# Altium schematic symbol library Smart_Gateway_Rev1.0.SchLib: 47 symbols
Pins are listed as number, name and electrical type; pins without a type are passive.

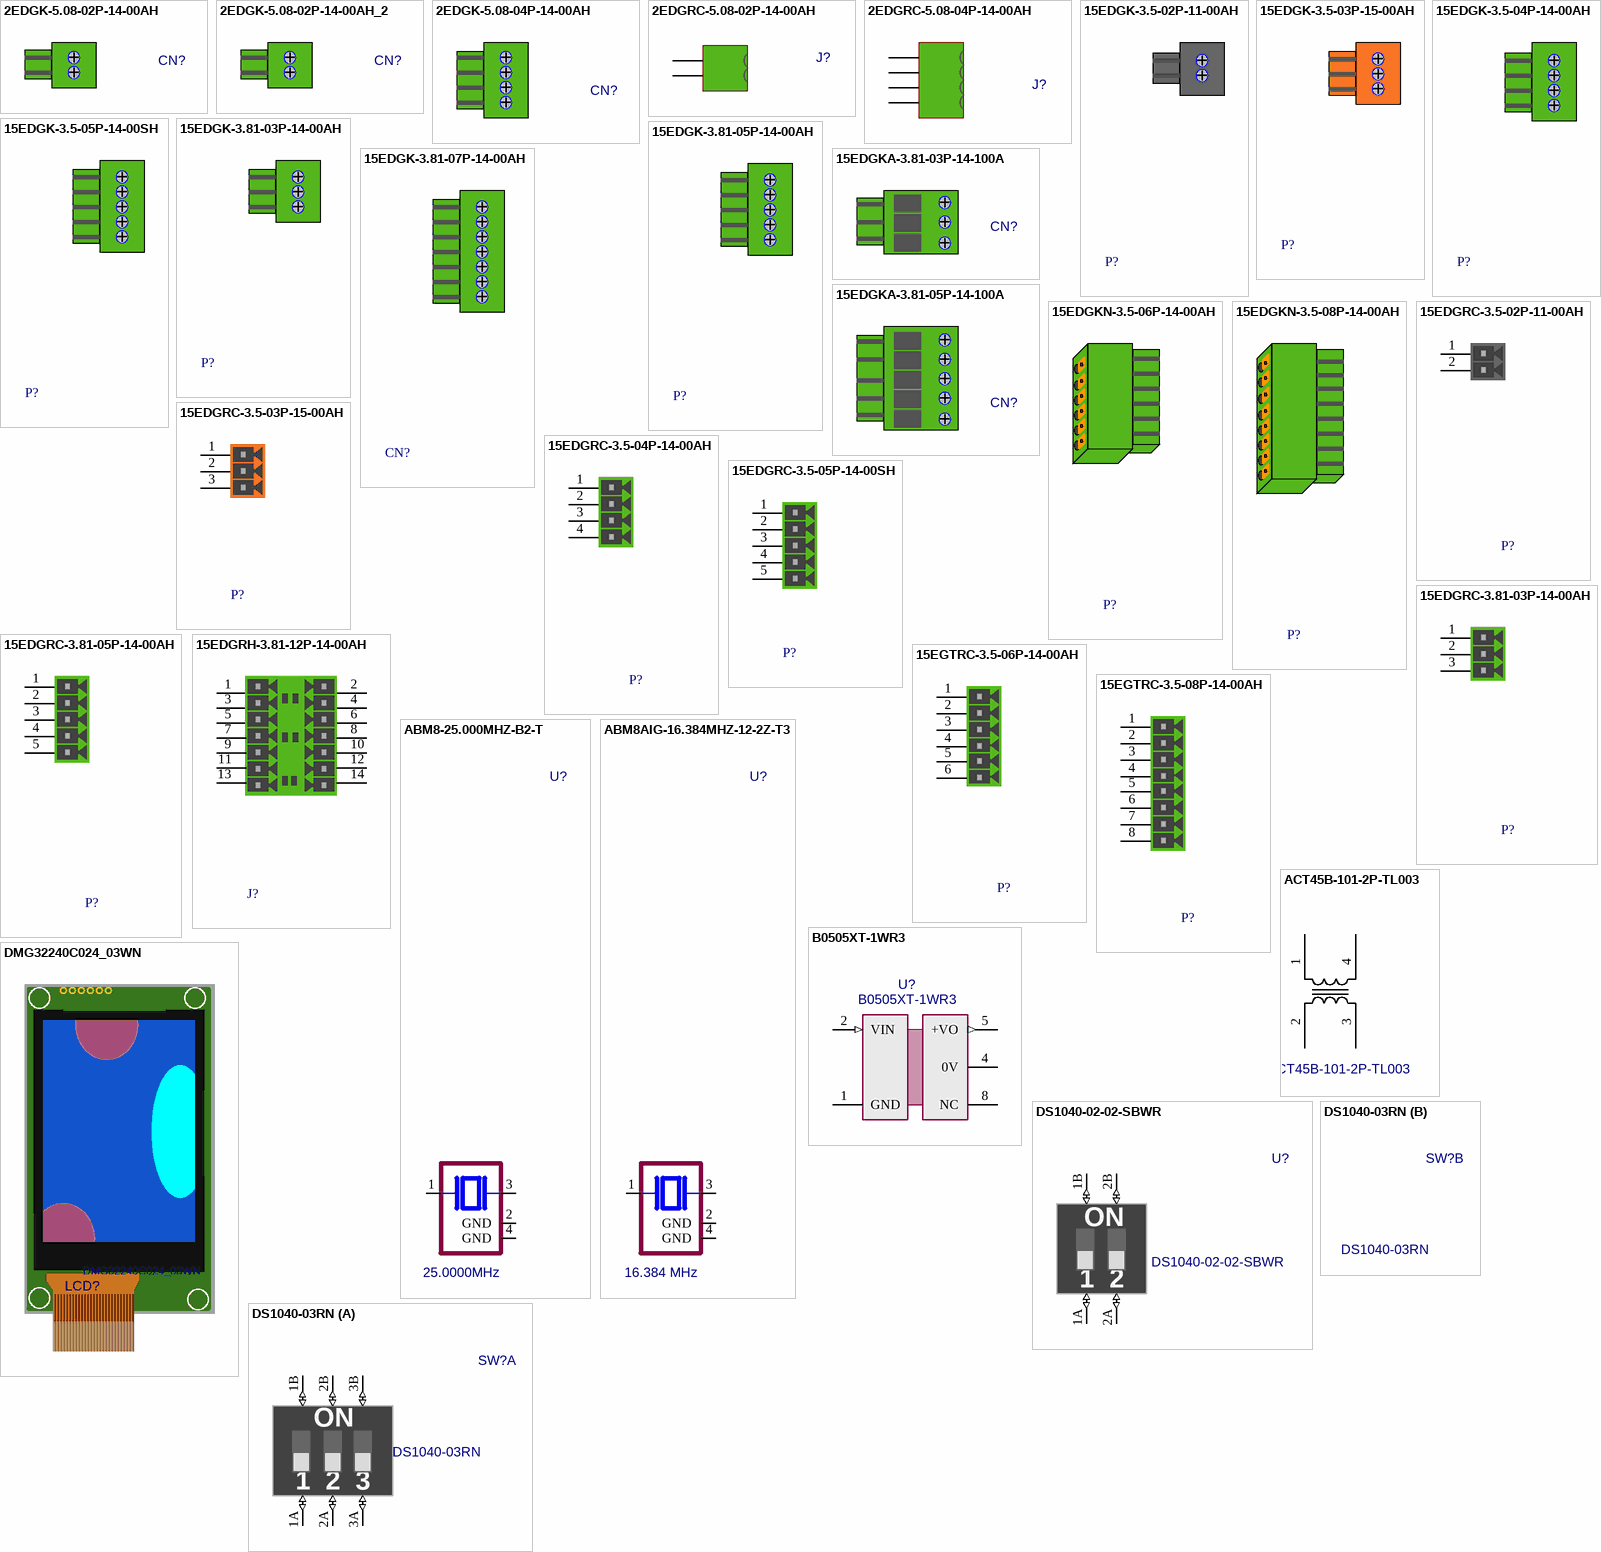
[diagram p0: symbols 2EDGK-5.08-02P-14-00AH to DS1040-03RN]

## 2EDGK-5.08-02P-14-00AH
designator CN?  (value not drawn)  (mechanical)
TERM.BLK.5.08MM 2P FEMALE GREEN; Manufacturer: DEGSON; Manufacturer Part Number: 2EDGK-5.08-02P-14-00AH
footprint 2EDGK-5.08-02P (Footprint not found)

## 2EDGK-5.08-02P-14-00AH_2
designator CN?, comment 2EDGK-5.08-02P-14-00AH  (value not drawn)  (mechanical)
TERM.BLK.5.08MM 2P FEMALE GREEN; Manufacturer: DEGSON; Manufacturer Part Number: 2EDGK-5.08-02P-14-00AH
footprint 2EDGK-5.08-02P (Footprint not found)

## 2EDGK-5.08-04P-14-00AH
designator CN?  (value not drawn)  (mechanical)
TERM.BLK.5.08MM 4P FEMALE GREEN; Manufacturer: DEGSON; Manufacturer Part Number: 2EDGK-5.08-04P-14-00AH
footprint 2EDGK-5.08-04P (TERM.BLK.5.08MM 2P FEMALE GREEN)

## 2EDGRC-5.08-02P-14-00AH
designator J?  (value not drawn)
TERM.BLK.5.08MM 2P 90C MALE GREEN CLOSED; Manufacturer: DEGSON; Manufacturer Part Number: 2EDGRC-5.08-02P-14-00AH
footprint 2EDGRC-5.08-02P (TERM.BLK.5.08MM 2P 90C MALE GREEN CLOSED)
pins: 1, 2

## 2EDGRC-5.08-04P-14-00AH
designator J?  (value not drawn)
TERM.BLK.5.08MM 4P 90C MALE GREEN CLOSED; Manufacturer: DEGSON; Manufacturer Part Number: 2EDGRC-5.08-04P-14-00AH
footprint 2EDGRC-5.08-04P (Footprint not found)
pins: 1, 2, 3, 4

## 15EDGK-3.5-02P-11-00AH
designator P?  (value not drawn)  (mechanical)
TERM.BLK.3.50MM 2P FEMALE GRAY; Manufacturer: DEGSON; Value: 3.5mm 02P; Manufacturer Part Number: 15EDGK-3.5-02P-11-00AH
footprint 15EDGK-3.5-02P-11-00AH (Footprint not found)

## 15EDGK-3.5-03P-15-00AH
designator P?  (value not drawn)  (mechanical)
TERM.BLK.3.50MM 3P FEMALE ORANGE; Manufacturer: DEGSON; Value: 3.5mm 03P; Manufacturer Part Number: 15EDGK-3.5-03P-15-00AH
footprint 15EDGK-3.5-03P (Footprint not found)

## 15EDGK-3.5-04P-14-00AH
designator P?  (value not drawn)  (mechanical)
TERM.BLK.3.50MM 5P FEMALE GREEN; Manufacturer: DEGSON; Value: 3.5mm 03P; Manufacturer Part Number: 15EDGK-3.5-04P-14-00AH
footprint 15EDGK-3.5-04P (Footprint not found)

## 15EDGK-3.5-05P-14-00SH
designator P?  (value not drawn)  (mechanical)
TERM.BLK.3.50MM 5P FEMALE GREEN; Manufacturer: DEGSON; Value: 3.5mm 03P; Manufacturer Part Number: 15EDGK-3.5-05P-14-00SH
footprint 15EDGK-3.5-05P (Footprint not found)

## 15EDGK-3.81-03P-14-00AH
designator P?  (value not drawn)  (mechanical)
TERM.BLK.3.81MM 3P FEMALE GREEN; Manufacturer: DEGSON; Value: 3.81mm 03P; Manufacturer Part Number: 15EDGK-3.81-03P-14-00AH
footprint 15EDGK-3.81-03P (TERM.BLK.3.81MM 3P FEMALE GREEN)

## 15EDGK-3.81-05P-14-00AH
designator P?  (value not drawn)  (mechanical)
TERM.BLK.3.81MM 5P FEMALE GREEN; Manufacturer: DEGSON; Value: 3.81m 05P; Manufacturer Part Number: 15EDGK-3.81-05P-14-00AH
footprint 15EDGK-3.5-05P (Footprint not found)

## 15EDGK-3.81-07P-14-00AH
designator CN?  (value not drawn)  (mechanical)
TERM.BLK.3.81MM 7P FEMALE GREEN; Manufacturer: DEGSON; Value: 3.81m 07P; Manufacturer Part Number: 15EDGK-3.81-07P-14-00AH
footprint 15EDGK-3.81-07P (TERM.BLK.3.81MM 7P FEMALE GREEN)

## 15EDGKA-3.81-03P-14-100A
designator CN?  (value not drawn)  (mechanical)
TERM.BLK.3.81MM 3P 180C FEMALE GREEN; Manufacturer: DEGSON; Manufacturer Part Number: 15EDGKA-3.81-03P-14-100A
footprint 15EDGKA-3.81-03P

## 15EDGKA-3.81-05P-14-100A
designator CN?  (value not drawn)  (mechanical)
TERM.BLK.3.81MM 5P 180C FEMALE GREEN; Manufacturer: DEGSON; Manufacturer Part Number: 15EDGKA-3.81-05P-14-100A
footprint 15EDGKA-3.81-05P (Footprint not found)

## 15EDGKN-3.5-06P-14-00AH
designator P?  (value not drawn)  (mechanical)
TERM.BLK.3.50MM 6P FEMALE GREEN CLOSED; Manufacturer: DEGSON; Value: 3.5mm 06P; Manufacturer Part Number: 15EDGKN-3.5-06P-14-00AH
footprint 15EDGKN-3.5-06P-14-00AH

## 15EDGKN-3.5-08P-14-00AH
designator P?  (value not drawn)  (mechanical)
TERM.BLK.3.50MM 8P FEMALE GREEN CLOSED; Manufacturer: DEGSON; Value: 3.5mm 06P; Manufacturer Part Number: 15EDGKN-3.5-08P-14-00AH
footprint 15EDGKN-3.5-08P-14-00AH

## 15EDGRC-3.5-02P-11-00AH
designator P?  (value not drawn)
TERM.BLK.3.50MM 2P 90C MALE GRAY CLOSED; Manufacturer: DEGSON; Value: 3.5mm 02P; Manufacturer Part Number: 15EDGRC-3.5-02P-11-00AH
footprint 15EDGRC-3.5-02P-11-00AH
pins: 1, 2

## 15EDGRC-3.5-03P-15-00AH
designator P?  (value not drawn)
TERM.BLK.3.50MM 3P 90C MALE ORANGE CLOSED; Manufacturer: DEGSON; Value: 3.5mm 03P; Manufacturer Part Number: 15EDGRC-3.5-03P-15-00AH
footprint 15EDGRC-3.5-03P (Footprint not found)
pins: 1, 2, 3

## 15EDGRC-3.5-04P-14-00AH
designator P?  (value not drawn)
TERM.BLK.3.50MM 4P 90C MALE GREEN CLOSED; Manufacturer: DEGSON; Value: 3.5mm 04P; Manufacturer Part Number: 15EDGRC-3.5-04P-14-00AH
footprint 15EDGRC-3.5-04P (Footprint not found)
pins: 1, 2, 3, 4

## 15EDGRC-3.5-05P-14-00SH
designator P?  (value not drawn)
TERM.BLK.3.50MM 5P 90C MALE GREEN CLOSED; Manufacturer: DEGSON; Value: 3.5mm 05P; Manufacturer Part Number: 15EDGRC-3.5-05P-14-00SH
footprint 15EDGRC-3.5-05P (Footprint not found)
pins: 1, 2, 3, 4, 5

## 15EDGRC-3.81-03P-14-00AH
designator P?  (value not drawn)
TERM.BLK.3.81MM 3P 90C MALE GREEN CLOSED; Manufacturer: DEGSON; Value: 3.81mm 03P; Manufacturer Part Number: 15EDGRC-3.81-03P-14-00AH
footprint 15EDGRC-3.81-03P (Footprint not found)
pins: 1, 2, 3

## 15EDGRC-3.81-05P-14-00AH
designator P?  (value not drawn)
TERM.BLK.3.81MM 5P 90C MALE GREEN CLOSED; Manufacturer: DEGSON; Value: 3.81mm 05P; Manufacturer Part Number: 15EDGRC-3.81-05P-14-00AH
footprint 15EDGRC-3.81-05P (Footprint not found)
pins: 1, 2, 3, 4, 5

## 15EDGRH-3.81-12P-14-00AH
designator J?  (value not drawn)
TERM.BLK.3.81mm 14P 90C MALE GREEN CLOSED; Manufacturer: DEGSON; Value: 3.81mm 14P; Manufacturer Part Number: 15EDGRH-3.81-12P-14-00AH
footprint 15EDGRH-3.81-14P
pins: 1, 2, 3, 4, 5, 6, 7, 8, 9, 10, 11, 12, 13, 14

## 15EGTRC-3.5-06P-14-00AH
designator P?  (value not drawn)
TERM.BLK.3.50MM 6P 90C MALE GREEN CLOSED; Manufacturer: GOLTEN; Value: 3.5mm 06P; Manufacturer Part Number: 15EGTRC-3.5-06P-14-00AH
footprint 15EGTRC-3.5-06P-14-00AH
pins: 1, 2, 3, 4, 5, 6

## 15EGTRC-3.5-08P-14-00AH
designator P?  (value not drawn)
TERM.BLK.3.50MM 8P 90C MALE GREEN CLOSED; Manufacturer: GOLTEN; Value: 3.5mm 08P; Manufacturer Part Number: 15EGTRC-3.5-08P-14-00AH
footprint 15EGTRC-3.5-08P-14-00AH (Footprint not found)
pins: 1, 2, 3, 4, 5, 6, 7, 8

## ABM8-25.000MHZ-B2-T
designator U?  value 25.0000MHz  (hidden comment: ABM8-25.000MHZ-B2-T)
CRYSTAL 25.0000MHz 18pF 20PPM 4-SMD; Manufacturer: ABRACON; Package: 4-SMD; Manufacturer Part Number: ABM8-25.000MHZ-B2-T
footprint XTAL_ABM8-25.000MHZ-B2-T
pins: 1, 2 GND (power), 3 2, 4 GND (power)

## ABM8AIG-16.384MHZ-12-2Z-T3
designator U?  value 16.384 MHz  (hidden comment: ABM8AIG-16.384MHZ-12-2Z-T3)
CRYSTAL 16.3840MHZ 12PF SMD; Manufacturer: ABRACON; Package: 4-SMD; Manufacturer Part Number: ABM8AIG-16.384MHZ-12-2Z-T3
footprint XTAL_ABM8-25.000MHZ-B2-T
pins: 1, 2 GND (power), 3 2, 4 GND (power)

## ACT45B-101-2P-TL003
designator U?
CMC 100UH 150MA 2LN 5.8KOHM SMD; Manufacturer: TDK Corporation; Package: SMD; Manufacturer Part Number: ACT45B-101-2P-TL003; Value: ACT45B-101-2P-TL003
footprint ACT45B-101-2P-TL003_TDK
pins: 1, 2, 3, 4

## B0505XT-1WR3
designator U?
DC DC CONVERTER 5V 1W; Manufacturer: MORNSUN; Package: 8-SMD; Manufacturer Part Number: B0505XT-1WR3; Value: B0505XT-1WR3
footprint CONV_B0505XT-1WR3
pins: 1 GND (power), 2 VIN (in), 4 0V, 5 +VO (out), 8 NC

## DMG32240C024_03WN
designator LCD?
SMART DISPLAY MOD 2.4" 320x240 TN; Manufacturer: BEIJING DWIN; Package: FLEX CABLE
footprint BEIJING DWIN (Footprint not found)

## DS1040-02-02-SBWR
designator U?
SWITCH DIP 2 Pos. SPST 25mA 24VDC SMT V/T; Manufacturer: CONNFLY; Package: SMT V/T; Manufacturer Part Number: DS1040-02-02-SBWR; Value: DS1040-02-02-SBWR
footprint DS1040-02-02-SBWR (Footprint not found)
pins: 1A (io), 1B (io), 2A (io), 2B (io)
text: ON; 1; 2

## DS1040-03RN
designator SW?
SWITCH DIP 3 Pos. SPST 100mA 24VDC THT V/T; Manufacturer: CONNFLY; Package: SMT V/T; Manufacturer Part Number: DS1040-03RN; Value: DS1040-03RN
footprint DS1040-03RN
part A pins: 1A (io), 1B (io), 2A (io), 2B (io), 3A (io), 3B (io)
part A text: ON; 1; 2; 3

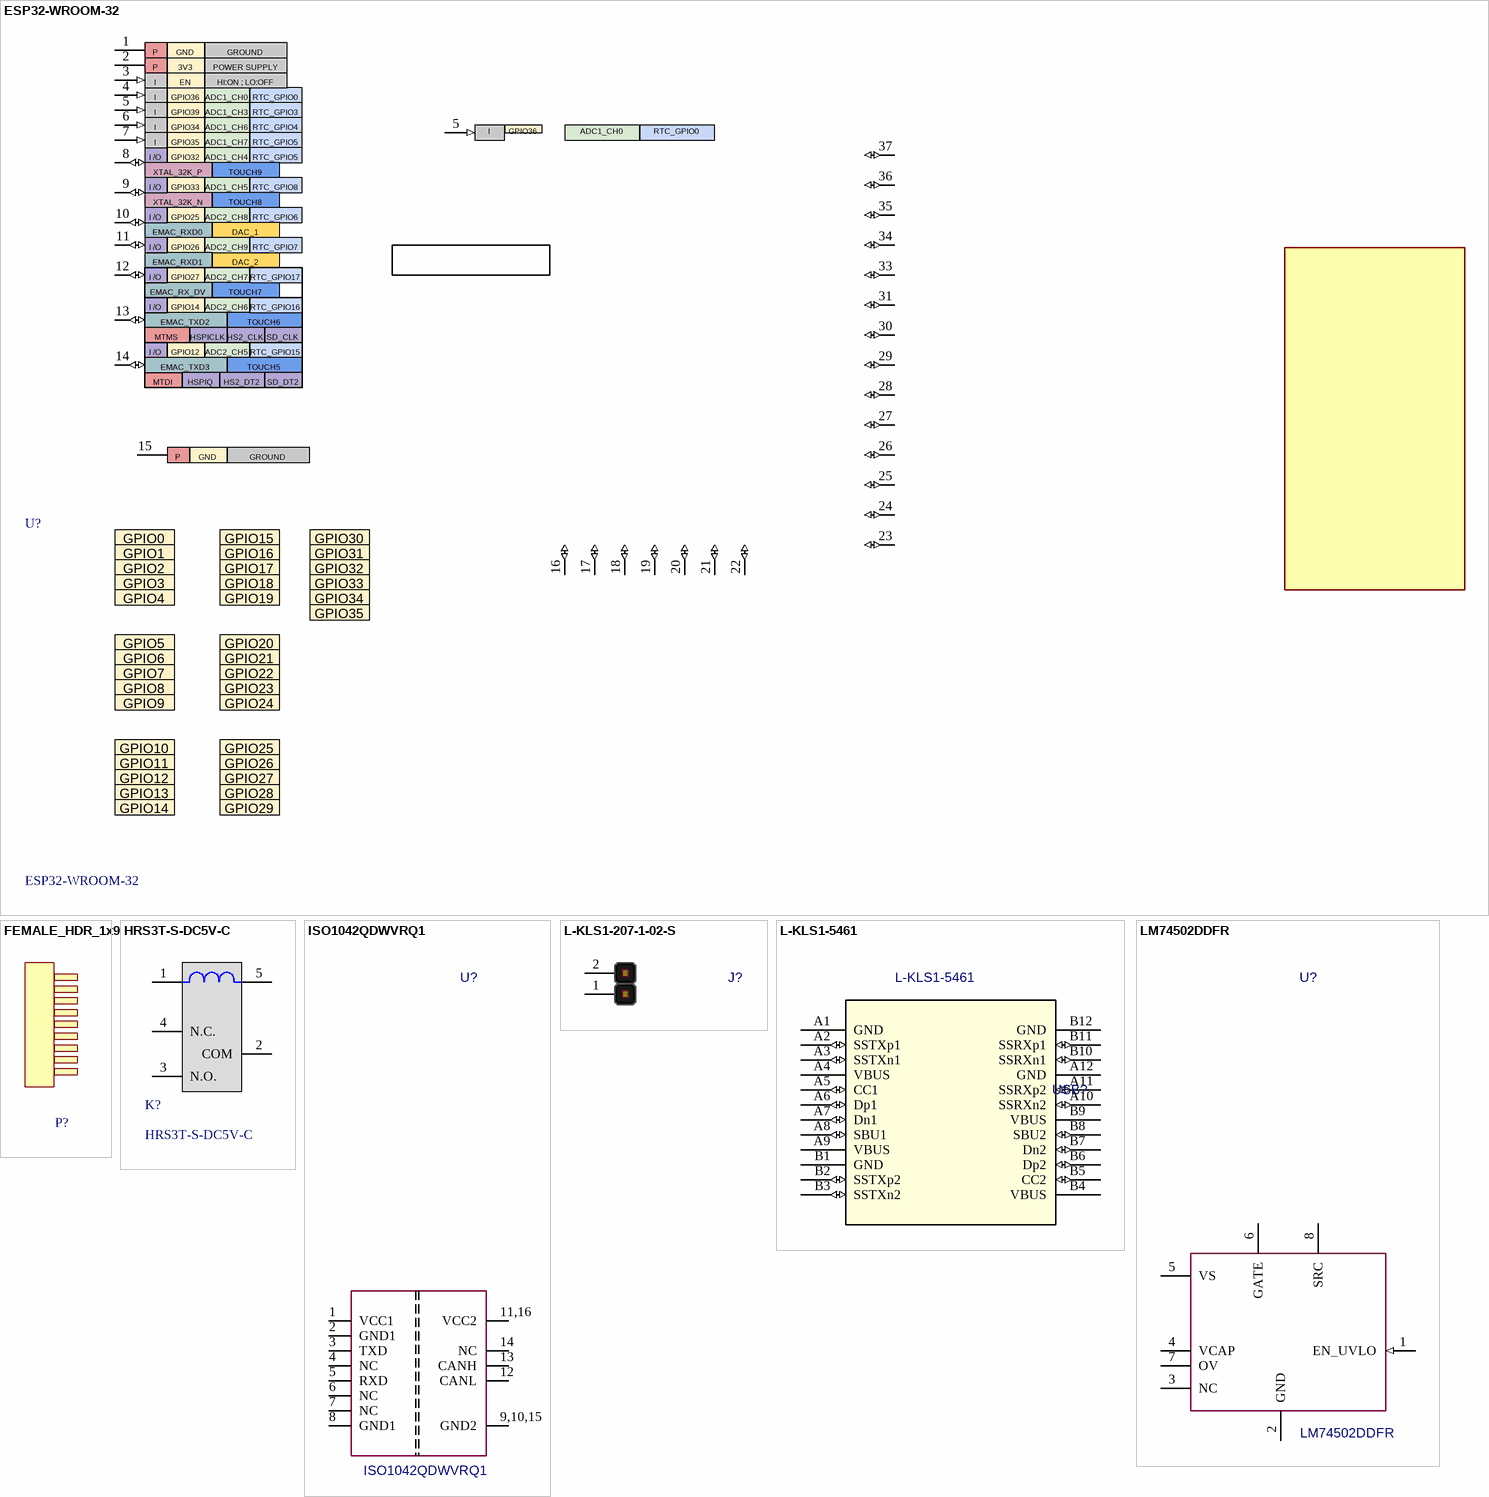
[diagram p1: symbols ESP32-WROOM-32 to LM74502DDFR]

## ESP32-WROOM-32
designator U?
WiFi Modules (802.11) SMD module ESP32-WROOM-32E, ESP32-D0WD-V3, ESP32 ECO V3, 8 MB SPI flash, IPEX antenna connector; Part Number: M000011; Manufacturer Part Number: ESP32-WROOM-32E (8MB); Manufacturer: Espressif; Supplier 1: Digi-Key; Supplier Part Number 1: ESP32-WROOM-32E; Operating Temperature: -40°C ~ 85°C; Price: 3,3
footprint XCVR_ESP32-WROOM-32U
footprint ESP32-WROOM-32E
pins: 1 GND (power), 2 3V3 (power), 3 EN (in), 4 SENSOR_VP (in), 5 SENSOR_VN (in), 5 SENSOR_VP (in), 6 I034 (in), 7 I035 (in), 8 I032 (io), 9 I033 (io), 10 I025 (io), 11 I026 (io), 12 IO27 (io), 13 IO14 (io), 14 IO12 (io), 15 GND (power), 16 IO13 (io), 17 SHD/SD2 (io), 18 SWP/SD3 (io), 19 SCS/CMD (io), 20 SCL/CLK (io), 21 SDO/SD0 (io), 22 SD1/SD1 (io), 23 IO15 (io), 24 IO2 (io), 25 IO0 (io), 26 IO4 (io), 27 IO16 (io), 28 IO17 (io), 29 IO5 (io), 30 IO18 (io), 31 IO19 (io), 33 IO21 (io), 34 RXD0 (io), 35 TXD0 (io), 36 IO22 (io), 37 IO23 (io)
text: P; GROUND; POWER SUPPLY; I; HI:ON ; LO:OFF; GPIO36; ADC1_CH0; RTC_GPIO0; GPIO39; ADC1_CH3; RTC_GPIO3; GPIO34; ADC1_CH6; RTC_GPIO4; GPIO35; ADC1_CH7; RTC_GPIO5; I /O; GPIO32; ADC1_CH4; XTAL_32K_P; TOUCH9; GPIO33; ADC1_CH5; RTC_GPIO8; XTAL_32K_N; TOUCH8; GPIO25; ADC2_CH8; RTC_GPIO6; EMAC_RXD0; DAC_1; GPIO26; ADC2_CH9; RTC_GPIO7; EMAC_RXD1; DAC_2; GPIO27; ADC2_CH7; RTC_GPIO17; EMAC_RX_DV; TOUCH7; GPIO14; ADC2_CH6; RTC_GPIO16; EMAC_TXD2; TOUCH6; MTMS; HSPICLK; HS2_CLK; SD_CLK; GPIO12; ADC2_CH5; RTC_GPIO15; EMAC_TXD3; TOUCH5; MTDI; HSPIQ; HS2_DT2; SD_DT2; GPIO0 /; GPIO15; GPIO30; GPIO1 /; GPIO16; GPIO31; GPIO2 /; GPIO17; GPIO3; GPIO18; GPIO4; GPIO19; GPIO5; GPIO20; GPIO6; GPIO21; GPIO7; GPIO22; GPIO8; GPIO23; GPIO9; GPIO24; GPIO10; GPIO11; GPIO13; GPIO28; GPIO29

## FEMALE_HDR_1x9
designator P?  (value not drawn)  (mechanical)
TERM.BLK.3.81MM 09P 90C FEMALE GREEN CLOSED DEGSON; Manufacturer Part Number: 15EDGK-3.81-09P; Connector Type: Klemens; Pitch: 3.5mm; Number of Positions: 2; Current Rating: 8A; Voltage - Rated: 300V; Value: 3.81mm 09P; Manufacturer: DEGSON; Series: 15EDGK; Supplier 1: Ozdisan; Contact Type: Female; Mounting Type: THT; Supplier Part Number 1: 15EDGK-3.81-09P; Operating Temperature: -40°C~+105°C; Number of Rows: 1; Price: 0,06791
footprint 15EDGK-3.5-09P-14-00AH

## HRS3T-S-DC5V-C
designator K?
RELAY POWER 10A 5VDC 1FormC HKE; Manufacturer: HKE; Manufacturer Part Number: HRS3T-S-DC5V-C
footprint JQ15VF
pins: 1 COIL_1, 2 COM, 3 N.O., 4 N.C., 5 COIL_2

## ISO1042QDWVRQ1
designator U?
1/1 Transceiver, Isolated Full CANbus 8-SOIC; Manufacturer: Texas Instruments; Package: 8SOIC; Manufacturer Part Number: ISO1042QDWVRQ1; Value: ISO1042QDWVRQ1
footprint 8-SOIC
pins: 1 VCC1 (power), 2 GND1 (power), 3 TXD, 4 NC, 5 RXD, 6 NC (power), 7 NC (power), 8 GND1 (power), 9,10,15 GND2 (power), 11,16 VCC2 (power), 12 CANL, 13 CANH, 14 NC

## L-KLS1-207-1-02-S
designator J?  (value not drawn)
PIN HEADER 2PIN(1x2) 2.54mm THT V/T; Manufacturer: KLS ELECTRONIC; Manufacturer Part Number: L-KLS1-207-1-02-S
footprint PIN HEADER 2PIN(1x2) 2.54mm THT V/T
pins: 1, 2

## L-KLS1-5461
designator USB?
CONNECTOR USB 14P USB FEMALE SOCKET C TYPE; Manufacturer: KLS ELECTRONIC; Package: SMT R/T; Manufacturer Part Number: L-KLS1-5461; Value: L-KLS1-5461
footprint 217C-AA01_ATT
pins: A1 GND (power), A2 SSTXp1 (io), A3 SSTXn1 (io), A4 VBUS (power), A5 CC1 (io), A6 Dp1 (io), A7 Dn1 (io), A8 SBU1 (io), A9 VBUS (power), A10 SSRXn2 (io), A11 SSRXp2 (io), A12 GND (power), B1 GND (power), B2 SSTXp2 (io), B3 SSTXn2 (io), B4 VBUS (power), B5 CC2 (io), B6 Dp2 (io), B7 Dn2 (io), B8 SBU2 (io), B9 VBUS (power), B10 SSRXn1 (io), B11 SSRXp1 (io), B12 GND (power)

## LM74502DDFR
designator U?
3.2-V TO 65-V INDUSTRIAL RPP CON; Manufacturer: Texas Instruments; Package: TSOT-23-8; Manufacturer Part Number: LM74502DDFR; Value: LM74502DDFR
footprint DDF0008A-MFG
pins: 1 EN_UVLO (in), 2 GND (power), 3 NC, 4 VCAP, 5 VS (power), 6 GATE, 7 OV, 8 SRC

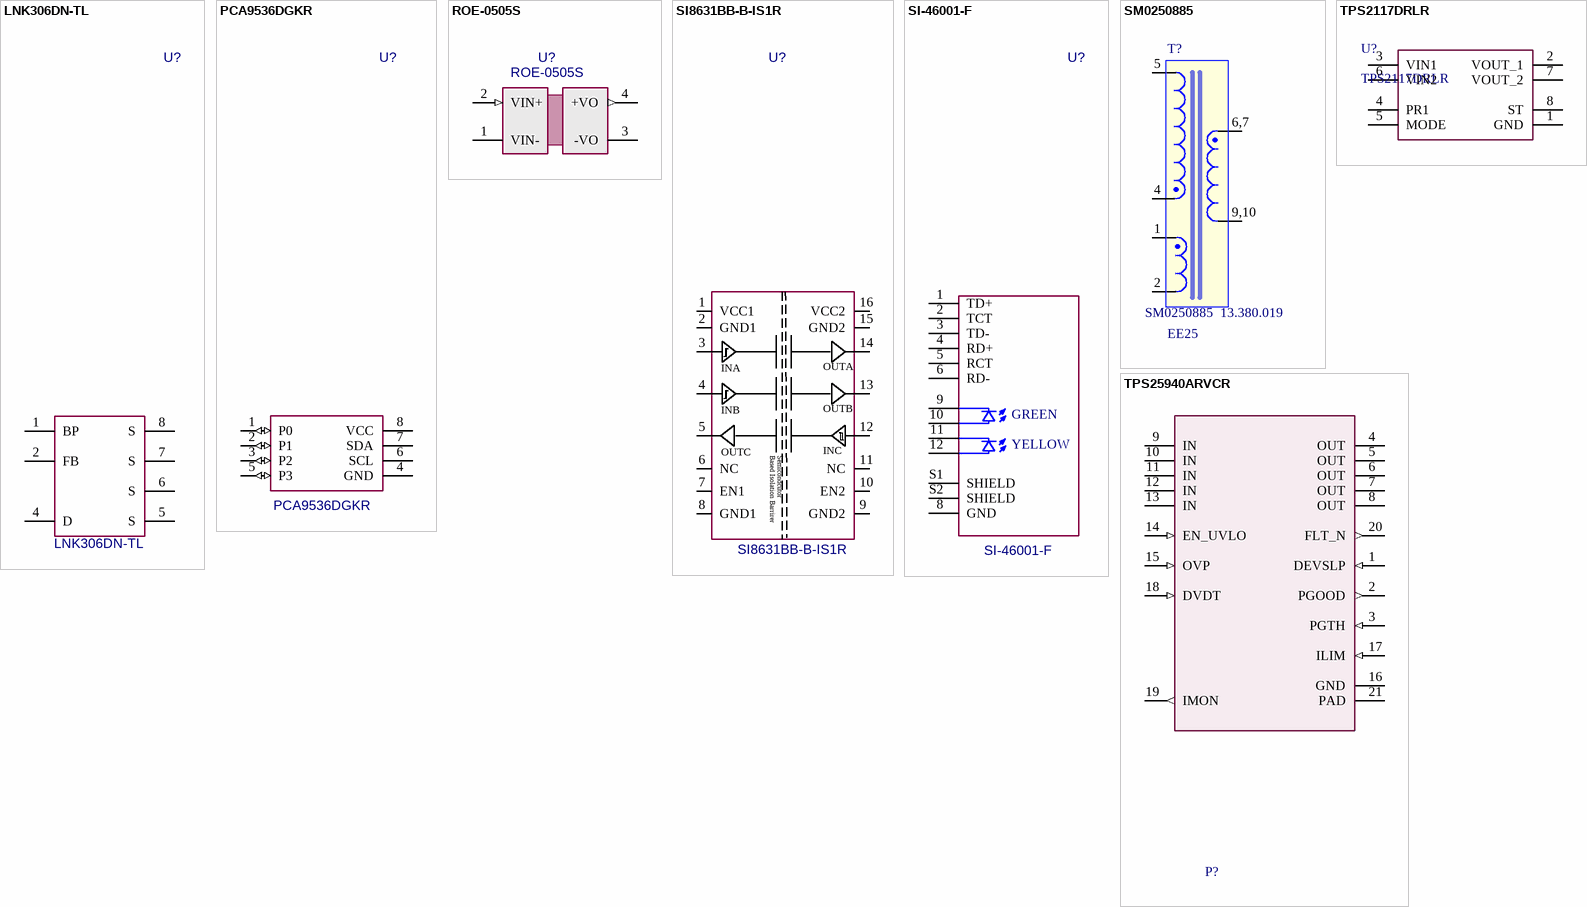
[diagram p2: symbols LNK306DN-TL to TPS25940ARVCR]

## LNK306DN-TL
designator U?
IC OFFLINE SWITCH MULT TOP 8SO; Manufacturer: Power Integrations; Package: 8-SOIC; Manufacturer Part Number: LNK306DN-TL; Value: LNK306DN-TL
footprint SOIC_04DG-TL_PWI
pins: 1 BP (power), 2 FB (power), 4 D (power), 5 S (power), 6 S (power), 7 S (power), 8 S (power)

## PCA9536DGKR
designator U?
IC XPNDR 400KHZ I2C SMBUS 8VSSOP; Manufacturer: Texas Instruments; Package: 8-VSSOP; Manufacturer Part Number: PCA9536DGKR; Value: PCA9536DGKR
footprint DGK8
pins: 1 P0 (io), 2 P1 (io), 3 P2 (io), 4 GND (power), 5 P3 (io), 6 SCL, 7 SDA, 8 VCC (power)

## ROE-0505S
designator U?
DC/DC CONV 1W 5VDC 5VDC 200mA SIP4; Manufacturer: RECOM; Package: 4-SIP; Manufacturer Part Number: ROE-0505S; Value: ROE-0505S
footprint ROE_RCP
pins: 1 VIN- (power), 2 VIN+ (in), 3 -VO, 4 +VO (out)

## SI8631BB-B-IS1R
designator U?
DGTL ISO 2500VRMS 3CH GP 16SOIC; Manufacturer: Skyworks Solutions Inc.; Package: SOIC16; Manufacturer Part Number: SI8631BB-B-IS1R; Value: SI8631BB-B-IS1R
footprint RW_16_ADI
pins: 1 VCC1 (power), 2 GND1 (power), 3 VIA, 4 VIB, 5 VOC, 6 NC (power), 7 EN1 (power), 8 GND1 (power), 9 GND2 (power), 10 EN2 (power), 11 NC (power), 12 VIC, 13 VOB, 14 VOA, 15 GND2 (power), 16 VCC2 (power)
text: OUTA; INA; INB; OUTB; Based Isolation Barrirer; Semicondcutor; OUTC; INC

## SI-46001-F
designator U?
CONN JACK 1PORT 100 BASE-T PCB; Manufacturer: Bel Fuse Inc.; Package: RJ45; Manufacturer Part Number: SI-46001-F; Value: SI-46001-F
footprint BEL_SI-46001-F
pins: 1 TD+, 2 TCT, 3 TD-, 4 RD+, 5 RCT, 6 RD-, 8 GND (power), 9 GK, 10 GA, 11 YK, 12 YA, S1 SHIELD, S2 SHIELD
text: GREEN; YELLOW

## SM0250885
designator T?, comment EE25  Manufacturer Part Number: SM0250885  13.380.019
Bobbin, EE25, Horizontal, 9 pins (4primary,5secondary); Manufacturer: Sedasan
footprint EE25 (PI_BOBBIN_EE16_7P); pin to pad 6,7>6+7
pins: 1, 2, 4, 5, 6,7 6, 9,10 9

## TPS2117DRLR
designator U?
1.6-V TO 5.5-V, 20-M, 4-A LOW IQ; Manufacturer: Texas Instruments; Manufacturer Part Number: TPS2117DRLR
footprint SOTFL50P160X60-8N
pins: 1 GND, 2 VOUT_1, 3 VIN1, 4 PR1, 5 MODE, 6 VIN2, 7 VOUT_2, 8 ST

## TPS25940ARVCR
designator P?  (value not drawn)
TERM.BLK.3.50MM 9P 90C MALE GREEN CLOSED; Manufacturer: Texas Instruments; Value: TPS25940ARVCR; Manufacturer Part Number: TPS25940ARVCR
footprint 20-WFQFN Exposed Pad (Footprint not found)
pins: 1 DEVSLP (in), 2 PGOOD (out), 3 PGTH (in), 4 OUT (power), 5 OUT (power), 6 OUT (power), 7 OUT (power), 8 OUT (power), 9 IN (power), 10 IN (power), 11 IN (power), 12 IN (power), 13 IN (power), 14 EN_UVLO (in), 15 OVP (in), 16 GND (power), 17 ILIM (in), 18 DVDT (in), 19 IMON (out), 20 FLT_N (out), 21 PAD (power)